# Altium footprint library 691364300006.PcbLib: 1 footprints
Each footprint in its own frame and in the unit in brackets; x right, y up, seen from the top. Pads: shape width x height; smd on the part's side, far side on the other; paste and mask are expansions set on the pad; w line width, h text height; cw(c..) or ccw(c..) is an arc to the next point about the centre after c.
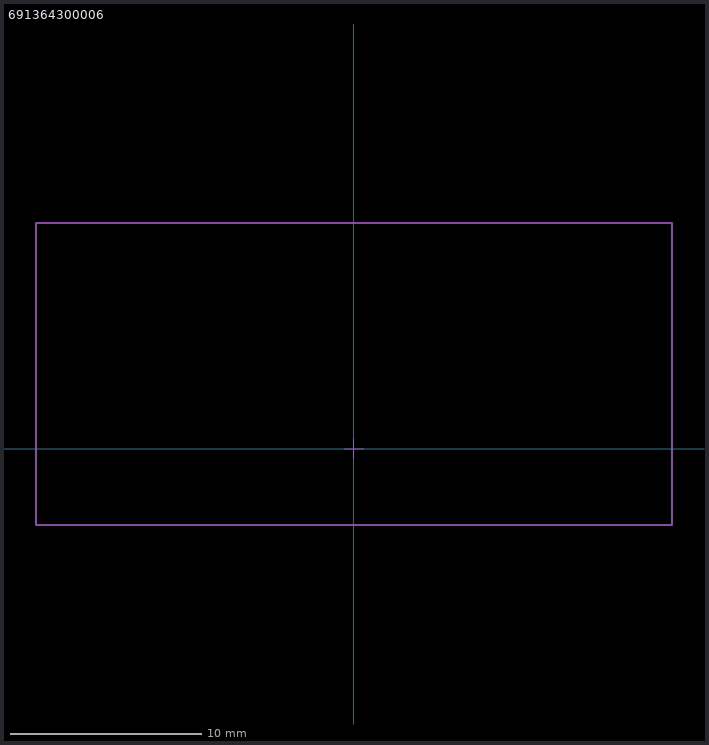
[diagram p0: the footprint, top view; thin cyan lines are the x and y axes]

## 691364300006 [mm]
Top Assembly:
  lines w0.05: -0.5,0 0.5,0 ; 0,-0.5 0,0.5
  lines w0.1: -16.63,-4 16.63,-4 16.63,11.8 -16.63,11.8 -16.63,-4
3D body "691364300006 (rev1).stp": height 6.15, standoff -4.95, extent -16.63,-4 16.63,11.8